# EAGLE library part CHL8510CRT (library CHL8510CRT)
Dc-Dc Conv, Buck/Boost, 1mhz, Wdfn-10
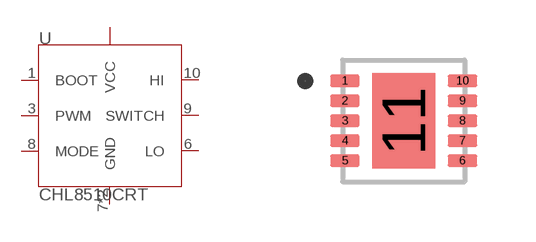
[diagram p0: symbol with the pads of 10-VFDFN; footprint 10-VFDFN]

Designator prefix U

## CHL8510CRT (AVAILABILITY: Unavailable; DESCRIPTION: Dc-Dc Conv, Buck/Boost, 1mhz, Wdfn-10; MF: Richtek USA; MP: RT6150AGQW; PACKAGE: WFDFN-10 Richtek; PRICE: None)  [10-VFDFN]
1  BOOT
2  VCC
3  PWM
4  VCC
5  VCC
6  LO
7  GND
8  MODE
9  SWITCH
10  HI
11  GND

## Footprint 10-VFDFN (pad centres in mm)
smd 0.74 x 0.3: 1 -1.47,1; 2 -1.47,0.5; 3 -1.47,0; 4 -1.47,-0.5; 5 -1.47,-1; 6 1.47,-1; 7 1.47,-0.5; 8 1.47,0; 9 1.47,0.5; 10 1.47,1
smd 1.57 x 2.39: 11 0,0